# Altium footprint library Seeed-OPL-ic.PCBLIB: 95 footprints (part 2 of 6)
Each footprint in its own frame and in the unit in brackets; x right, y up, seen from the top. Pads: shape width x height; smd on the part's side, far side on the other; paste and mask are expansions set on the pad; w line width, h text height; cw(c..) or ccw(c..) is an arc to the next point about the centre after c.
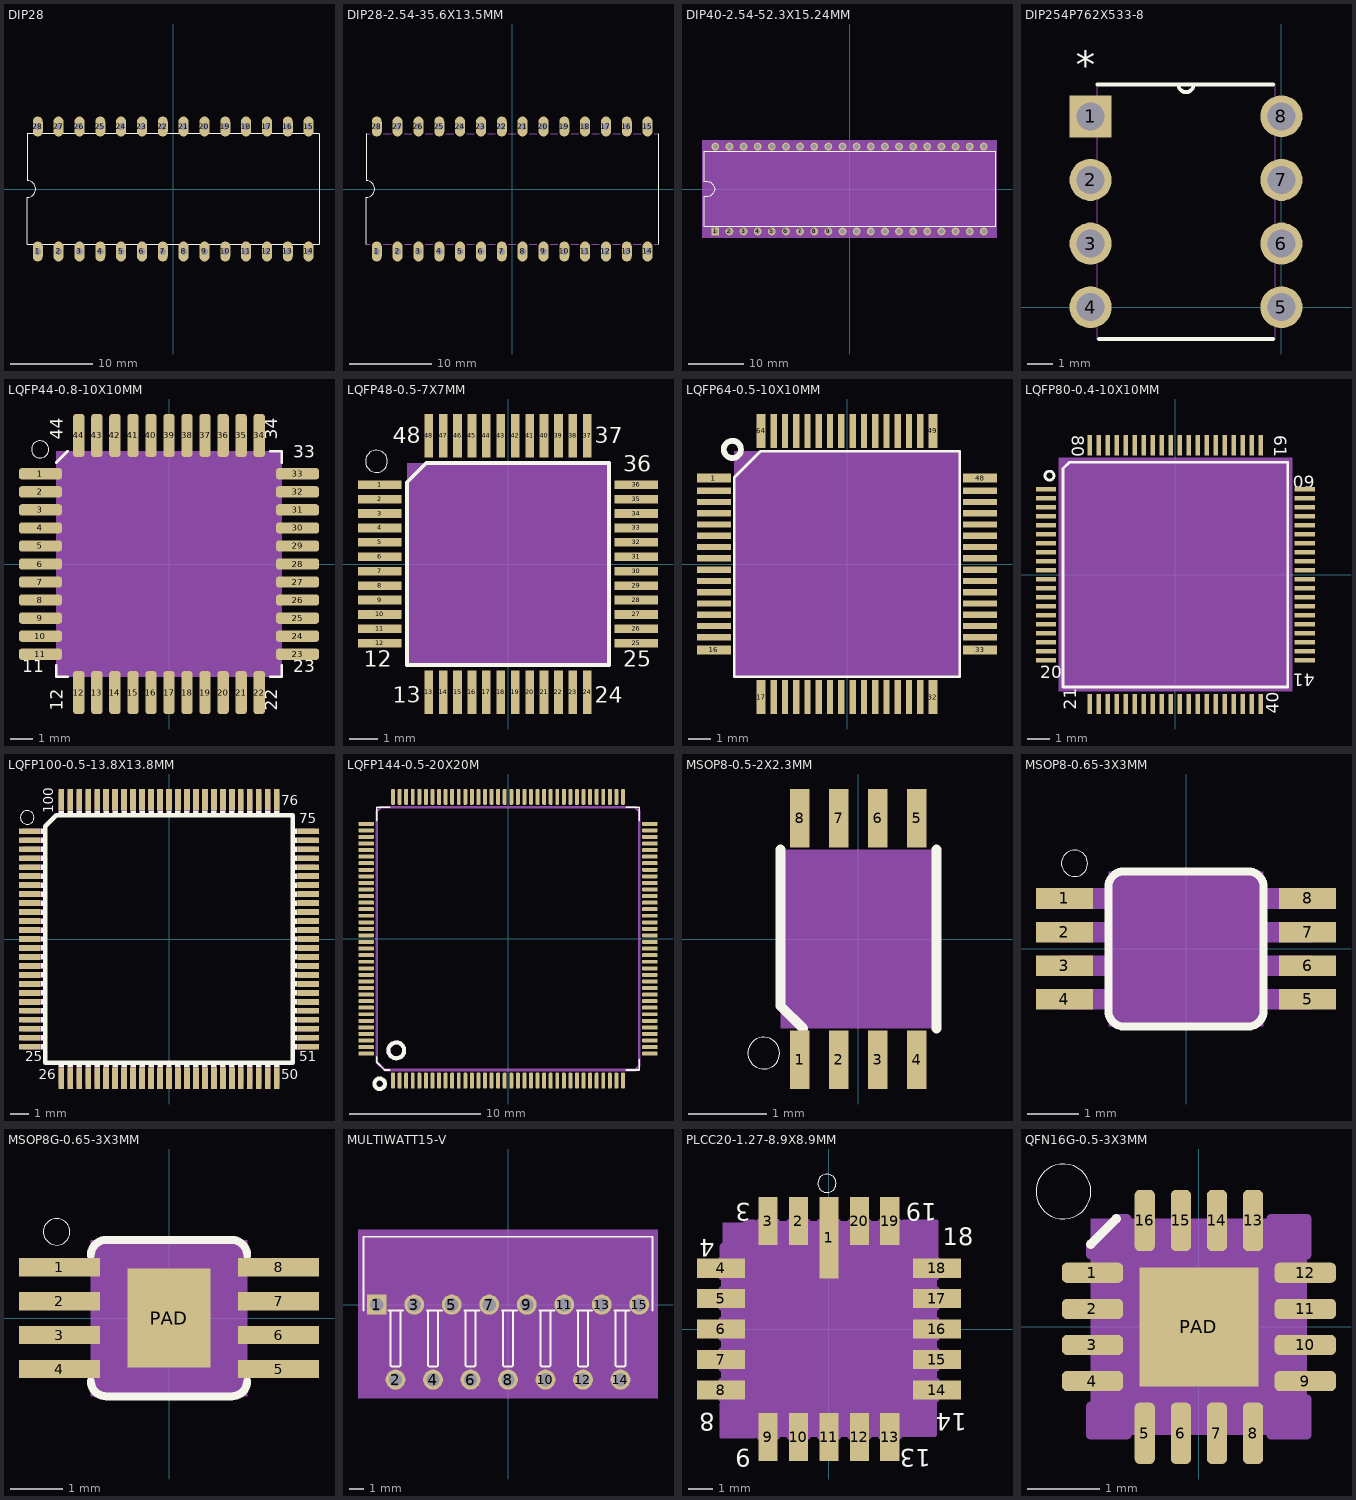
[diagram p1: the footprints below, top view; thin cyan lines are the x and y axes]

## DIP28 [mil]
pads (28):
  oval 48x96 hole 32: 1(-650,-300) 2(-550,-300) 3(-450,-300) 4(-350,-300) 5(-250,-300) 6(-150,-300) 7(-50,-300) 8(50,-300) 9(150,-300) 10(250,-300) 11(350,-300) 12(450,-300) 13(550,-300) 14(650,-300) 15(650,300) 16(550,300) 17(450,300) 18(350,300) 19(250,300) 20(150,300) 21(50,300) 22(-50,300) 23(-150,300) 24(-250,300) 25(-350,300) 26(-450,300) 27(-550,300) 28(-650,300)
Top Overlay:
  lines w6: -700,-265 700,-265 700,265 -700,265 -700,40 cw(c-700,0) -700,-40 -700,-265

## DIP28-2.54-35.6X13.5MM [mil]
pads (28):
  oval 48x96 hole 32: 1(-650,-300) 2(-550,-300) 3(-450,-300) 4(-350,-300) 5(-250,-300) 6(-150,-300) 7(-50,-300) 8(50,-300) 9(150,-300) 10(250,-300) 11(350,-300) 12(450,-300) 13(550,-300) 14(650,-300) 15(650,300) 16(550,300) 17(450,300) 18(350,300) 19(250,300) 20(150,300) 21(50,300) 22(-50,300) 23(-150,300) 24(-250,300) 25(-350,300) 26(-450,300) 27(-550,300) 28(-650,300)
Top Overlay:
  lines w6: -700,-265 -700,-40 ccw(c-700,0) -700,40 -700,265 ; 700,-265 700,265
Mechanical 16:
  lines w5: -700,-265 -681.1,-265 ; -700,265 -681.1,265 ; -618.11,-265 -581.1,-265 ; -618.11,265 -581.1,265 ; -518.11,-265 -481.1,-265 ; -518.11,265 -481.1,265 ; -418.11,-265 -381.1,-265 ; -418.11,265 -381.1,265 ; -318.11,-265 -281.1,-265 ; -318.11,265 -281.1,265 ; -218.11,-265 -181.1,-265 ; -218.11,265 -181.1,265 ; -118.11,-265 -81.1,-265 ; -118.11,265 -81.1,265 ; -18.11,-265 18.9,-265 ; -18.11,265 18.9,265 ; 81.89,-265 118.9,-265 ; 81.89,265 118.9,265 ; 181.89,-265 218.9,-265 ; 181.89,265 218.9,265 ; 281.89,-265 318.9,-265 ; 281.89,265 318.9,265 ; 381.89,-265 418.9,-265 ; 381.89,265 418.9,265 ; 481.89,-265 518.9,-265 ; 481.89,265 518.9,265 ; 581.89,-265 618.9,-265 ; 581.89,265 618.9,265 ; 681.1,-265 700,-265 ; 681.1,265 700,265

## DIP40-2.54-52.3X15.24MM [mm]
pads (40):
  rect 1.4x1.4 hole 0.9: 1(-24.13,-7.62)
  round 1.4 hole 0.9: 2(-21.59,-7.62) 3(-19.05,-7.62) 4(-16.51,-7.62) 5(-13.97,-7.62) 6(-11.43,-7.62) 7(-8.89,-7.62) 8(-6.35,-7.62) 9(-3.81,-7.62) 10(-1.27,-7.62) 11(1.27,-7.62) 12(3.81,-7.62) 13(6.35,-7.62) 14(8.89,-7.62) 15(11.43,-7.62) 16(13.97,-7.62) 17(16.51,-7.62) 18(19.05,-7.62) 19(21.59,-7.62) 20(24.13,-7.62) 21(24.13,7.62) 22(21.59,7.62) 23(19.05,7.62) 24(16.51,7.62) 25(13.97,7.62) 26(11.43,7.62) 27(8.89,7.62) 28(6.35,7.62) 29(3.81,7.62) 30(1.27,7.62) 31(-1.27,7.62) 32(-3.81,7.62) 33(-6.35,7.62) 34(-8.89,7.62) 35(-11.43,7.62) 36(-13.97,7.62) 37(-16.51,7.62) 38(-19.05,7.62) 39(-21.59,7.62) 40(-24.13,7.62)
Top Overlay:
  lines w0.127: -26.15,-6.75 26.15,-6.75 26.15,6.75 -26.15,6.75 -26.15,1.27 cw(c-25.75,-0.35) -24.13,0.05 -24.13,-0.05 cw(c-25.75,0.35) -26.15,-1.27 -26.15,-6.75
Mechanical 27:
  rectangle: -26.5,-8.81 26.5,8.81

## DIP254P762X533-8 [mil]
pads (8):
  rect 66x66 hole 44: 1(-300,300)
  round 66 hole 44: 2(-300,200) 3(-300,100) 4(-300,0) 5(0,0) 6(0,100) 7(0,200) 8(0,300)
Top Overlay:
  lines w6: -289.37,350 -162,350 ; -287,-50 -13,-50 ; -13,350 -138,350 ; -162,350 -138,350 ; -162,350 ccw(c-150,350) -138,350
  text "*" at -323,344 h77.5
Mechanical 16:
  lines w0: -162,350 -138,350 ; -162,350 -290,350 -290,-50 -10,-50 -10,350 -138,350 ; -162,350 ccw(c-150,350) -138,350 ; -322,-22 -322,22 -290,22 -290,-22 -322,-22 ; -322,78 -322,122 -290,122 -290,78 -322,78 ; -322,178 -322,222 -290,222 -290,178 -322,178 ; -322,278 -322,322 -290,322 -290,278 -322,278 ; -10,-22 -10,22 22,22 22,-22 -10,-22 ; -10,78 -10,122 22,122 22,78 -10,78 ; -10,178 -10,222 22,222 22,178 -10,178 ; -10,278 -10,322 22,322 22,278 -10,278
  text "*" at -323,344 h77.5

## LQFP44-0.8-10X10MM [mm]
pads (44):
  rrect50% 1.9x0.5 smd: 1(-5.7,4) 2(-5.7,3.2) 3(-5.7,2.4) 4(-5.7,1.6) 5(-5.7,0.8) 6(-5.7,0) 7(-5.7,-0.8) 8(-5.7,-1.6) 9(-5.7,-2.4) 10(-5.7,-3.2) 11(-5.7,-4) 23(5.7,-4) 24(5.7,-3.2) 25(5.7,-2.4) 26(5.7,-1.6) 27(5.7,-0.8) 28(5.7,0) 29(5.7,0.8) 30(5.7,1.6) 31(5.7,2.4) 32(5.7,3.2) 33(5.7,4)
  rrect50% 0.5x1.9 smd: 12(-4,-5.7) 13(-3.2,-5.7) 14(-2.4,-5.7) 15(-1.6,-5.7) 16(-0.8,-5.7) 17(0,-5.7) 18(0.8,-5.7) 19(1.6,-5.7) 20(2.4,-5.7) 21(3.2,-5.7) 22(4,-5.7) 34(4,5.7) 35(3.2,5.7) 36(2.4,5.7) 37(1.6,5.7) 38(0.8,5.7) 39(0,5.7) 40(-0.8,5.7) 41(-1.6,5.7) 42(-2.4,5.7) 43(-3.2,5.7) 44(-4,5.7)
Top Overlay:
  circle w0: c-5.715,5.08 r0.381
  lines w0.127: -5,-4.5 -5,-5 -4.5,-5 ; -5,4.5 -4.5,5 ; 4.5,-5 5,-5 5,-4.5 ; 4.5,5 5,5 5,4.5
  text "11" at -6.5,-5 h0.94
  text "12" at -4.5,-6.5 h0.94
  text "22" at 5,-6.5 h0.94
  text "23" at 5.5,-5 h0.94
  text "33" at 5.5,4.5 h0.94
  text "34" at 5,5.5 h0.94
  text "44" at -4.5,5.5 h0.94
Mechanical 27:
  rectangle: -5,-5 5,5

## LQFP48-0.5-7X7MM [mm]
pads (48):
  rect 1.5x0.3 smd: 1(-4.45,2.75) 2(-4.45,2.25) 3(-4.45,1.75) 4(-4.45,1.25) 5(-4.45,0.75) 6(-4.45,0.25) 7(-4.45,-0.25) 8(-4.45,-0.75) 9(-4.45,-1.25) 10(-4.45,-1.75) 11(-4.45,-2.25) 12(-4.45,-2.75) 25(4.45,-2.75) 26(4.45,-2.25) 27(4.45,-1.75) 28(4.45,-1.25) 29(4.45,-0.75) 30(4.45,-0.25) 31(4.45,0.25) 32(4.45,0.75) 33(4.45,1.25) 34(4.45,1.75) 35(4.45,2.25) 36(4.45,2.75)
  rect 0.3x1.5 smd: 13(-2.75,-4.45) 14(-2.25,-4.45) 15(-1.75,-4.45) 16(-1.25,-4.45) 17(-0.75,-4.45) 18(-0.25,-4.45) 19(0.25,-4.45) 20(0.75,-4.45) 21(1.25,-4.45) 22(1.75,-4.45) 23(2.25,-4.45) 24(2.75,-4.45) 37(2.75,4.45) 38(2.25,4.45) 39(1.75,4.45) 40(1.25,4.45) 41(0.75,4.45) 42(0.25,4.45) 43(-0.25,4.45) 44(-0.75,4.45) 45(-1.25,4.45) 46(-1.75,4.45) 47(-2.25,4.45) 48(-2.75,4.45)
Top Overlay:
  circle w0: c-4.56,3.56 r0.381
  lines w0.127: -3.5,-3.5 -3.5,2.836 -2.836,3.5 3.5,3.5 3.5,-3.5 -3.5,-3.5
  text "12" at -5,-3.75 h0.94
  text "13" at -4,-5 h0.94
  text "24" at 3,-5 h0.94
  text "25" at 4,-3.75 h0.94
  text "36" at 4,3 h0.94
  text "37" at 3,4 h0.94
  text "48" at -4,4 h0.94
Mechanical 27:
  rectangle: -3.5,-3.5 3.5,3.5

## LQFP64-0.5-10X10MM [mm]
pads (64):
  rect 1.5x0.4 smd: 1(-5.9,3.81) 16(-5.9,-3.81) 33(5.9,-3.81) 48(5.9,3.81)
  rect 1.5x0.28 smd: 2(-5.9,3.25) 3(-5.9,2.75) 4(-5.9,2.25) 5(-5.9,1.75) 6(-5.9,1.25) 7(-5.9,0.75) 8(-5.9,0.25) 9(-5.9,-0.25) 10(-5.9,-0.75) 11(-5.9,-1.25) 12(-5.9,-1.75) 13(-5.9,-2.25) 14(-5.9,-2.75) 15(-5.9,-3.25) 34(5.9,-3.25) 35(5.9,-2.75) 36(5.9,-2.25) 37(5.9,-1.75) 38(5.9,-1.25) 39(5.9,-0.75) 40(5.9,-0.25) 41(5.9,0.25) 42(5.9,0.75) 43(5.9,1.25) 44(5.9,1.75) 45(5.9,2.25) 46(5.9,2.75) 47(5.9,3.25)
  rect 0.4x1.5 smd: 17(-3.81,-5.9) 32(3.81,-5.9) 49(3.81,5.9) 64(-3.81,5.9)
  rect 0.28x1.5 smd: 18(-3.25,-5.9) 19(-2.75,-5.9) 20(-2.25,-5.9) 21(-1.75,-5.9) 22(-1.25,-5.9) 23(-0.75,-5.9) 24(-0.25,-5.9) 25(0.25,-5.9) 26(0.75,-5.9) 27(1.25,-5.9) 28(1.75,-5.9) 29(2.25,-5.9) 30(2.75,-5.9) 31(3.25,-5.9) 50(3.25,5.9) 51(2.75,5.9) 52(2.25,5.9) 53(1.75,5.9) 54(1.25,5.9) 55(0.75,5.9) 56(0.25,5.9) 57(-0.25,5.9) 58(-0.75,5.9) 59(-1.25,5.9) 60(-1.75,5.9) 61(-2.25,5.9) 62(-2.75,5.9) 63(-3.25,5.9)
Top Overlay:
  circle w0.254: c-5.08,5.08 r0.381
  lines w0.127: -5,-5 -5,3.842 -3.842,5 5,5 5,-5 -5,-5
Mechanical 27:
  rectangle: -5,-5 5,5

## LQFP80-0.4-10X10MM [mm]
pads (80):
  rect 0.9x0.2 smd: 1(-5.75,3.8) 2(-5.75,3.4) 3(-5.75,3) 4(-5.75,2.6) 5(-5.75,2.2) 6(-5.75,1.8) 7(-5.75,1.4) 8(-5.75,1) 9(-5.75,0.6) 10(-5.75,0.2) 11(-5.75,-0.2) 12(-5.75,-0.6) 13(-5.75,-1) 14(-5.75,-1.4) 15(-5.75,-1.8) 16(-5.75,-2.2) 17(-5.75,-2.6) 18(-5.75,-3) 19(-5.75,-3.4) 20(-5.75,-3.8) 41(5.75,-3.8) 42(5.75,-3.4) 43(5.75,-3) 44(5.75,-2.6) 45(5.75,-2.2) 46(5.75,-1.8) 47(5.75,-1.4) 48(5.75,-1) 49(5.75,-0.6) 50(5.75,-0.2) 51(5.75,0.2) 52(5.75,0.6) 53(5.75,1) 54(5.75,1.4) 55(5.75,1.8) 56(5.75,2.2) 57(5.75,2.6) 58(5.75,3) 59(5.75,3.4) 60(5.75,3.8)
  rect 0.2x0.9 smd: 21(-3.8,-5.75) 22(-3.4,-5.75) 23(-3,-5.75) 24(-2.6,-5.75) 25(-2.2,-5.75) 26(-1.8,-5.75) 27(-1.4,-5.75) 28(-1,-5.75) 29(-0.6,-5.75) 30(-0.2,-5.75) 31(0.2,-5.75) 32(0.6,-5.75) 33(1,-5.75) 34(1.4,-5.75) 35(1.8,-5.75) 36(2.2,-5.75) 37(2.6,-5.75) 38(3,-5.75) 39(3.4,-5.75) 40(3.8,-5.75) 61(3.8,5.75) 62(3.4,5.75) 63(3,5.75) 64(2.6,5.75) 65(2.2,5.75) 66(1.8,5.75) 67(1.4,5.75) 68(1,5.75) 69(0.6,5.75) 70(0.2,5.75) 71(-0.2,5.75) 72(-0.6,5.75) 73(-1,5.75) 74(-1.4,5.75) 75(-1.8,5.75) 76(-2.2,5.75) 77(-2.6,5.75) 78(-3,5.75) 79(-3.4,5.75) 80(-3.8,5.75)
Top Overlay:
  circle w0.127: c-5.6,4.4 r0.2
  lines w0.127: -5,-5 -5,4.717 -4.717,5 5,5 5,-5 -5,-5
  text "20" at -6,-4.8 h0.94
  text "21" at -4.2,-6 h0.94
  text "40" at 4.8,-6.2 h0.94
  text "41" at 6.2,-4.2 h0.94
  text "60" at 6.2,4.6 h0.94
  text "61" at 4.2,6.2 h0.94
  text "80" at -4.8,6.2 h0.94
Mechanical 27:
  rectangle: -5.2,-5.2 5.2,5.2

## LQFP100-0.5-13.8X13.8MM [mm]
pads (100):
  rect 1.2x0.32 smd: 1(-7.75,6) 2(-7.75,5.5) 3(-7.75,5) 4(-7.75,4.5) 5(-7.75,4) 6(-7.75,3.5) 7(-7.75,3) 8(-7.75,2.5) 9(-7.75,2) 10(-7.75,1.5) 11(-7.75,1) 12(-7.75,0.5) 13(-7.75,0) 14(-7.75,-0.5) 15(-7.75,-1) 16(-7.75,-1.5) 17(-7.75,-2) 18(-7.75,-2.5) 19(-7.75,-3) 20(-7.75,-3.5) 21(-7.75,-4) 22(-7.75,-4.5) 23(-7.75,-5) 24(-7.75,-5.5) 25(-7.75,-6) 51(7.75,-6) 52(7.75,-5.5) 53(7.75,-5) 54(7.75,-4.5) 55(7.75,-4) 56(7.75,-3.5) 57(7.75,-3) 58(7.75,-2.5) 59(7.75,-2) 60(7.75,-1.5) 61(7.75,-1) 62(7.75,-0.5) 63(7.75,0) 64(7.75,0.5) 65(7.75,1) 66(7.75,1.5) 67(7.75,2) 68(7.75,2.5) 69(7.75,3) 70(7.75,3.5) 71(7.75,4) 72(7.75,4.5) 73(7.75,5) 74(7.75,5.5) 75(7.75,6)
  rect 0.32x1.2 smd: 26(-6,-7.75) 27(-5.5,-7.75) 28(-5,-7.75) 29(-4.5,-7.75) 30(-4,-7.75) 31(-3.5,-7.75) 32(-3,-7.75) 33(-2.5,-7.75) 34(-2,-7.75) 35(-1.5,-7.75) 36(-1,-7.75) 37(-0.5,-7.75) 38(0,-7.75) 39(0.5,-7.75) 40(1,-7.75) 41(1.5,-7.75) 42(2,-7.75) 43(2.5,-7.75) 44(3,-7.75) 45(3.5,-7.75) 46(4,-7.75) 47(4.5,-7.75) 48(5,-7.75) 49(5.5,-7.75) 50(6,-7.75) 76(6,7.75) 77(5.5,7.75) 78(5,7.75) 79(4.5,7.75) 80(4,7.75) 81(3.5,7.75) 82(3,7.75) 83(2.5,7.75) 84(2,7.75) 85(1.5,7.75) 86(1,7.75) 87(0.5,7.75) 88(0,7.75) 89(-0.5,7.75) 90(-1,7.75) 91(-1.5,7.75) 92(-2,7.75) 93(-2.5,7.75) 94(-3,7.75) 95(-3.5,7.75) 96(-4,7.75) 97(-4.5,7.75) 98(-5,7.75) 99(-5.5,7.75) 100(-6,7.75)
Top Overlay:
  circle w0: c-7.893,6.77 r0.381
  rectangle: -7.115,5.848 -6.861,6.152
  rectangle: -7.115,5.348 -6.861,5.653
  rectangle: -7.115,4.848 -6.861,5.152
  rectangle: -7.115,4.348 -6.861,4.653
  rectangle: -7.115,3.848 -6.861,4.152
  rectangle: -7.115,3.348 -6.861,3.653
  rectangle: -7.115,2.848 -6.861,3.152
  rectangle: -7.115,2.348 -6.861,2.653
  rectangle: -7.115,1.848 -6.861,2.152
  rectangle: -7.115,1.348 -6.861,1.653
  rectangle: -7.115,0.848 -6.861,1.152
  rectangle: -7.115,0.348 -6.861,0.653
  rectangle: -7.115,-0.152 -6.861,0.152
  rectangle: -7.115,-0.653 -6.861,-0.348
  rectangle: -7.115,-1.152 -6.861,-0.848
  rectangle: -7.115,-1.653 -6.861,-1.348
  rectangle: -7.115,-2.152 -6.861,-1.848
  rectangle: -7.115,-2.653 -6.861,-2.348
  rectangle: -7.115,-3.152 -6.861,-2.848
  rectangle: -7.115,-3.653 -6.861,-3.348
  rectangle: -7.115,-4.152 -6.861,-3.848
  rectangle: -7.115,-4.653 -6.861,-4.348
  rectangle: -7.115,-5.152 -6.861,-4.848
  rectangle: -7.115,-5.653 -6.861,-5.348
  rectangle: -7.115,-6.152 -6.861,-5.848
  rectangle: -6.152,-7.115 -5.848,-6.861
  rectangle: -5.653,-7.115 -5.348,-6.861
  rectangle: -5.152,-7.115 -4.848,-6.861
  rectangle: -4.653,-7.115 -4.348,-6.861
  rectangle: -4.152,-7.115 -3.848,-6.861
  rectangle: -3.653,-7.115 -3.348,-6.861
  rectangle: -3.152,-7.115 -2.848,-6.861
  rectangle: -2.653,-7.115 -2.348,-6.861
  rectangle: -2.152,-7.115 -1.848,-6.861
  rectangle: -1.653,-7.115 -1.348,-6.861
  rectangle: -1.152,-7.115 -0.848,-6.861
  rectangle: -0.653,-7.115 -0.348,-6.861
  rectangle: -0.152,-7.115 0.152,-6.861
  rectangle: 0.348,-7.115 0.653,-6.861
  rectangle: 0.848,-7.115 1.152,-6.861
  rectangle: 1.348,-7.115 1.653,-6.861
  rectangle: 1.848,-7.115 2.152,-6.861
  rectangle: 2.348,-7.115 2.653,-6.861
  rectangle: 2.848,-7.115 3.152,-6.861
  rectangle: 3.348,-7.115 3.653,-6.861
  rectangle: 3.848,-7.115 4.152,-6.861
  rectangle: 4.348,-7.115 4.653,-6.861
  rectangle: 4.848,-7.115 5.152,-6.861
  rectangle: 5.348,-7.115 5.653,-6.861
  rectangle: 5.848,-7.115 6.152,-6.861
  rectangle: 6.861,-6.152 7.115,-5.848
  rectangle: 6.861,-5.653 7.115,-5.348
  rectangle: 6.861,-5.152 7.115,-4.848
  rectangle: 6.861,-4.653 7.115,-4.348
  rectangle: 6.861,-4.152 7.115,-3.848
  rectangle: 6.861,-3.653 7.115,-3.348
  rectangle: 6.861,-3.152 7.115,-2.848
  rectangle: 6.861,-2.653 7.115,-2.348
  rectangle: 6.861,-2.152 7.115,-1.848
  rectangle: 6.861,-1.653 7.115,-1.348
  rectangle: 6.861,-1.152 7.115,-0.848
  rectangle: 6.861,-0.653 7.115,-0.348
  rectangle: 6.861,-0.152 7.115,0.152
  rectangle: 6.861,0.348 7.115,0.653
  rectangle: 6.861,0.848 7.115,1.152
  rectangle: 6.861,1.348 7.115,1.653
  rectangle: 6.861,1.848 7.115,2.152
  rectangle: 6.861,2.348 7.115,2.653
  rectangle: 6.861,2.848 7.115,3.152
  rectangle: 6.861,3.348 7.115,3.653
  rectangle: 6.861,3.848 7.115,4.152
  rectangle: 6.861,4.348 7.115,4.653
  rectangle: 6.861,4.848 7.115,5.152
  rectangle: 6.861,5.348 7.115,5.653
  rectangle: 6.861,5.848 7.115,6.152
  rectangle: 5.848,6.861 6.152,7.115
  rectangle: 5.348,6.861 5.653,7.115
  rectangle: 4.848,6.861 5.152,7.115
  rectangle: 4.348,6.861 4.653,7.115
  rectangle: 3.848,6.861 4.152,7.115
  rectangle: 3.348,6.861 3.653,7.115
  rectangle: 2.848,6.861 3.152,7.115
  rectangle: 2.348,6.861 2.653,7.115
  rectangle: 1.848,6.861 2.152,7.115
  rectangle: 1.348,6.861 1.653,7.115
  rectangle: 0.848,6.861 1.152,7.115
  rectangle: 0.348,6.861 0.653,7.115
  rectangle: -0.152,6.861 0.152,7.115
  rectangle: -0.653,6.861 -0.348,7.115
  rectangle: -1.152,6.861 -0.848,7.115
  rectangle: -1.653,6.861 -1.348,7.115
  rectangle: -2.152,6.861 -1.848,7.115
  rectangle: -2.653,6.861 -2.348,7.115
  rectangle: -3.152,6.861 -2.848,7.115
  rectangle: -3.653,6.861 -3.348,7.115
  rectangle: -4.152,6.861 -3.848,7.115
  rectangle: -4.653,6.861 -4.348,7.115
  rectangle: -5.152,6.861 -4.848,7.115
  rectangle: -5.653,6.861 -5.348,7.115
  rectangle: -6.152,6.861 -5.848,7.115
  lines w0.254: -6.883,-6.883 6.883,-6.883 6.883,6.883 -6.274,6.883 -6.883,6.274 -6.883,-6.883
  text "25" at -8,-7 h0.94
  text "26" at -7.25,-8 h0.94
  text "50" at 6.25,-8 h0.94
  text "51" at 7.25,-7 h0.94
  text "75" at 7.25,6.25 h0.94
  text "76" at 6.25,7.25 h0.94
  text "100" at -6.25,7 h0.94
Mechanical 16:
  rectangle: -8.131,5.848 -7.09,6.152
  rectangle: -8.131,5.348 -7.09,5.653
  rectangle: -8.131,4.848 -7.09,5.152
  rectangle: -8.131,4.348 -7.09,4.653
  rectangle: -8.131,3.848 -7.09,4.152
  rectangle: -8.131,3.348 -7.09,3.653
  rectangle: -8.131,2.848 -7.09,3.152
  rectangle: -8.131,2.348 -7.09,2.653
  rectangle: -8.131,1.848 -7.09,2.152
  rectangle: -8.131,1.348 -7.09,1.653
  rectangle: -8.131,0.848 -7.09,1.152
  rectangle: -8.131,0.348 -7.09,0.653
  rectangle: -8.131,-0.152 -7.09,0.152
  rectangle: -8.131,-0.653 -7.09,-0.348
  rectangle: -8.131,-1.152 -7.09,-0.848
  rectangle: -8.131,-1.653 -7.09,-1.348
  rectangle: -8.131,-2.152 -7.09,-1.848
  rectangle: -8.131,-2.653 -7.09,-2.348
  rectangle: -8.131,-3.152 -7.09,-2.848
  rectangle: -8.131,-3.653 -7.09,-3.348
  rectangle: -8.131,-4.152 -7.09,-3.848
  rectangle: -8.131,-4.653 -7.09,-4.348
  rectangle: -8.131,-5.152 -7.09,-4.848
  rectangle: -8.131,-5.653 -7.09,-5.348
  rectangle: -8.131,-6.152 -7.09,-5.848
  rectangle: -6.152,-8.131 -5.848,-7.09
  rectangle: -5.653,-8.131 -5.348,-7.09
  rectangle: -5.152,-8.131 -4.848,-7.09
  rectangle: -4.653,-8.131 -4.348,-7.09
  rectangle: -4.152,-8.131 -3.848,-7.09
  rectangle: -3.653,-8.131 -3.348,-7.09
  rectangle: -3.152,-8.131 -2.848,-7.09
  rectangle: -2.653,-8.131 -2.348,-7.09
  rectangle: -2.152,-8.131 -1.848,-7.09
  rectangle: -1.653,-8.131 -1.348,-7.09
  rectangle: -1.152,-8.131 -0.848,-7.09
  rectangle: -0.653,-8.131 -0.348,-7.09
  rectangle: -0.152,-8.131 0.152,-7.09
  rectangle: 0.348,-8.131 0.653,-7.09
  rectangle: 0.848,-8.131 1.152,-7.09
  rectangle: 1.348,-8.131 1.653,-7.09
  rectangle: 1.848,-8.131 2.152,-7.09
  rectangle: 2.348,-8.131 2.653,-7.09
  rectangle: 2.848,-8.131 3.152,-7.09
  rectangle: 3.348,-8.131 3.653,-7.09
  rectangle: 3.848,-8.131 4.152,-7.09
  rectangle: 4.348,-8.131 4.653,-7.09
  rectangle: 4.848,-8.131 5.152,-7.09
  rectangle: 5.348,-8.131 5.653,-7.09
  rectangle: 5.848,-8.131 6.152,-7.09
  rectangle: 7.09,-6.152 8.131,-5.848
  rectangle: 7.09,-5.653 8.131,-5.348
  rectangle: 7.09,-5.152 8.131,-4.848
  rectangle: 7.09,-4.653 8.131,-4.348
  rectangle: 7.09,-4.152 8.131,-3.848
  rectangle: 7.09,-3.653 8.131,-3.348
  rectangle: 7.09,-3.152 8.131,-2.848
  rectangle: 7.09,-2.653 8.131,-2.348
  rectangle: 7.09,-2.152 8.131,-1.848
  rectangle: 7.09,-1.653 8.131,-1.348
  rectangle: 7.09,-1.152 8.131,-0.848
  rectangle: 7.09,-0.653 8.131,-0.348
  rectangle: 7.09,-0.152 8.131,0.152
  rectangle: 7.09,0.348 8.131,0.653
  rectangle: 7.09,0.848 8.131,1.152
  rectangle: 7.09,1.348 8.131,1.653
  rectangle: 7.09,1.848 8.131,2.152
  rectangle: 7.09,2.348 8.131,2.653
  rectangle: 7.09,2.848 8.131,3.152
  rectangle: 7.09,3.348 8.131,3.653
  rectangle: 7.09,3.848 8.131,4.152
  rectangle: 7.09,4.348 8.131,4.653
  rectangle: 7.09,4.848 8.131,5.152
  rectangle: 7.09,5.348 8.131,5.653
  rectangle: 7.09,5.848 8.131,6.152
  rectangle: 5.848,7.09 6.152,8.131
  rectangle: 5.348,7.09 5.653,8.131
  rectangle: 4.848,7.09 5.152,8.131
  rectangle: 4.348,7.09 4.653,8.131
  rectangle: 3.848,7.09 4.152,8.131
  rectangle: 3.348,7.09 3.653,8.131
  rectangle: 2.848,7.09 3.152,8.131
  rectangle: 2.348,7.09 2.653,8.131
  rectangle: 1.848,7.09 2.152,8.131
  rectangle: 1.348,7.09 1.653,8.131
  rectangle: 0.848,7.09 1.152,8.131
  rectangle: 0.348,7.09 0.653,8.131
  rectangle: -0.152,7.09 0.152,8.131
  rectangle: -0.653,7.09 -0.348,8.131
  rectangle: -1.152,7.09 -0.848,8.131
  rectangle: -1.653,7.09 -1.348,8.131
  rectangle: -2.152,7.09 -1.848,8.131
  rectangle: -2.653,7.09 -2.348,8.131
  rectangle: -3.152,7.09 -2.848,8.131
  rectangle: -3.653,7.09 -3.348,8.131
  rectangle: -4.152,7.09 -3.848,8.131
  rectangle: -4.653,7.09 -4.348,8.131
  rectangle: -5.152,7.09 -4.848,8.131
  rectangle: -5.653,7.09 -5.348,8.131
  rectangle: -6.152,7.09 -5.848,8.131

## LQFP144-0.5-20X20M [mm]
pads (144):
  rrect50% 0.3x1.2 smd: 1(-8.75,-10.8) 2(-8.25,-10.8) 3(-7.75,-10.8) 4(-7.25,-10.8) 5(-6.75,-10.8) 6(-6.25,-10.8) 7(-5.75,-10.8) 8(-5.25,-10.8) 9(-4.75,-10.8) 10(-4.25,-10.8) 11(-3.75,-10.8) 12(-3.25,-10.8) 13(-2.75,-10.8) 14(-2.25,-10.8) 15(-1.75,-10.8) 16(-1.25,-10.8) 17(-0.75,-10.8) 18(-0.25,-10.8) 19(0.25,-10.8) 20(0.75,-10.8) 21(1.25,-10.8) 22(1.75,-10.8) 23(2.25,-10.8) 24(2.75,-10.8) 25(3.25,-10.8) 26(3.75,-10.8) 27(4.25,-10.8) 28(4.75,-10.8) 29(5.25,-10.8) 30(5.75,-10.8) 31(6.25,-10.8) 32(6.75,-10.8) 33(7.25,-10.8) 34(7.75,-10.8) 35(8.25,-10.8) 36(8.75,-10.8) 73(8.75,10.8) 74(8.25,10.8) 75(7.75,10.8) 76(7.25,10.8) 77(6.75,10.8) 78(6.25,10.8) 79(5.75,10.8) 80(5.25,10.8) 81(4.75,10.8) 82(4.25,10.8) 83(3.75,10.8) 84(3.25,10.8) 85(2.75,10.8) 86(2.25,10.8) 87(1.75,10.8) 88(1.25,10.8) 89(0.75,10.8) 90(0.25,10.8) 91(-0.25,10.8) 92(-0.75,10.8) 93(-1.25,10.8) 94(-1.75,10.8) 95(-2.25,10.8) 96(-2.75,10.8) 97(-3.25,10.8) 98(-3.75,10.8) 99(-4.25,10.8) 100(-4.75,10.8) 101(-5.25,10.8) 102(-5.75,10.8) 103(-6.25,10.8) 104(-6.75,10.8) 105(-7.25,10.8) 106(-7.75,10.8) 107(-8.25,10.8) 108(-8.75,10.8)
  rrect50% 1.2x0.3 smd: 37(10.8,-8.75) 38(10.8,-8.25) 39(10.8,-7.75) 40(10.8,-7.25) 41(10.8,-6.75) 42(10.8,-6.25) 43(10.8,-5.75) 44(10.8,-5.25) 45(10.8,-4.75) 46(10.8,-4.25) 47(10.8,-3.75) 48(10.8,-3.25) 49(10.8,-2.75) 50(10.8,-2.25) 51(10.8,-1.75) 52(10.8,-1.25) 53(10.8,-0.75) 54(10.8,-0.25) 55(10.8,0.25) 56(10.8,0.75) 57(10.8,1.25) 58(10.8,1.75) 59(10.8,2.25) 60(10.8,2.75) 61(10.8,3.25) 62(10.8,3.75) 63(10.8,4.25) 64(10.8,4.75) 65(10.8,5.25) 66(10.8,5.75) 67(10.8,6.25) 68(10.8,6.75) 69(10.8,7.25) 70(10.8,7.75) 71(10.8,8.25) 72(10.8,8.75) 109(-10.8,8.75) 110(-10.8,8.25) 111(-10.8,7.75) 112(-10.8,7.25) 113(-10.8,6.75) 114(-10.8,6.25) 115(-10.8,5.75) 116(-10.8,5.25) 117(-10.8,4.75) 118(-10.8,4.25) 119(-10.8,3.75) 120(-10.8,3.25) 121(-10.8,2.75) 122(-10.8,2.25) 123(-10.8,1.75) 124(-10.8,1.25) 125(-10.8,0.75) 126(-10.8,0.25) 127(-10.8,-0.25) 128(-10.8,-0.75) 129(-10.8,-1.25) 130(-10.8,-1.75) 131(-10.8,-2.25) 132(-10.8,-2.75) 133(-10.8,-3.25) 134(-10.8,-3.75) 135(-10.8,-4.25) 136(-10.8,-4.75) 137(-10.8,-5.25) 138(-10.8,-5.75) 139(-10.8,-6.25) 140(-10.8,-6.75) 141(-10.8,-7.25) 142(-10.8,-7.75) 143(-10.8,-8.25) 144(-10.8,-8.75)
Top Overlay:
  circle w0.305: c-8.5,-8.5 r0.6
  circle w0.305: c-9.77,-11.04 r0.4
  lines w0.127: -10,-9 -10,-9.4 -9.4,-10 -9,-10 ; -10,9 -10,10 -9,10 ; 9,-10 10,-10 10,-9.2 ; 9,10 10,10 10,9
Mechanical 16:
  circle w0.305: c-8.5,-8.5 r0.6
  lines w0.203: -10,-9.365 -9.365,-10 9.682,-10 10,-9.682 10,9.682 9.682,10 -9.682,10 -10,9.682 -10,-9.365
  text "144" at -11.43,-9.525 h0.63
  text "36" at 9.525,-10.795 h0.63
  text "37" at 10.16,-9.525 h0.63
  text "72" at 10.4,9.1 h0.63
  text "73" at 9.5,10.3 h0.63
  text "108" at -9.1,10.3 h0.63
  text "109" at -11.2,9.1 h0.63

## MSOP8-0.5-2X2.3MM [mm]
pads (8):
  rect 0.25x0.75 smd: 1(-0.75,-1.55) 2(-0.25,-1.55) 3(0.25,-1.55) 4(0.75,-1.55) 5(0.75,1.55) 6(0.25,1.55) 7(-0.25,1.55) 8(-0.75,1.55)
Top Overlay:
  circle w0: c-1.215,-1.465 r0.203
  lines w0.127: -1,1.15 -1,-0.859 -0.708,-1.15 ; 1,-1.15 1,1.15
Mechanical 27:
  rectangle: -1,-1.15 1,1.15

## MSOP8-0.65-3X3MM [mm]
pads (8):
  rect 1.1x0.4 smd: 1(-2.35,0.975) 2(-2.35,0.325) 3(-2.35,-0.325) 4(-2.35,-0.975) 5(2.35,-0.975) 6(2.35,-0.325) 7(2.35,0.325) 8(2.35,0.975)
Top Overlay:
  circle w0: c-2.155,1.655 r0.254
  lines w0.152: -1.5,-1.2 -1.5,1.2 cw(c-1.2,1.2) -1.2,1.5 1.2,1.5 cw(c1.2,1.2) 1.5,1.2 1.5,-1.2 cw(c1.2,-1.2) 1.2,-1.5 -1.2,-1.5 cw(c-1.2,-1.2) -1.5,-1.2
Mechanical 16:
  region: 2.45,-1.175 2.45,-0.775 1.55,-0.775 1.55,-1.175
  region: 2.45,-0.525 2.45,-0.125 1.55,-0.125 1.55,-0.525
  region: 2.45,0.125 2.45,0.525 1.55,0.525 1.55,0.125
  region: 2.45,0.775 2.45,1.175 1.55,1.175 1.55,0.775
  region: -1.55,0.775 -1.55,1.175 -2.45,1.175 -2.45,0.775
  region: -1.55,0.125 -1.55,0.525 -2.45,0.525 -2.45,0.125
  region: -1.55,-0.525 -1.55,-0.125 -2.45,-0.125 -2.45,-0.525
  region: -1.55,-1.175 -1.55,-0.775 -2.45,-0.775 -2.45,-1.175
Mechanical 27:
  rectangle: -1.5,-1.5 1.5,1.5

## MSOP8G-0.65-3X3MM [mm]
pads (9):
  rect 1.55x0.35 smd: 1(-2.1,0.975) 2(-2.1,0.325) 3(-2.1,-0.325) 4(-2.1,-0.975) 5(2.1,-0.975) 6(2.1,-0.325) 7(2.1,0.325) 8(2.1,0.975)
  rect 1.6x1.9 smd: PAD(0,0)
Top Overlay:
  circle w0: c-2.155,1.655 r0.254
  lines w0.152: -1.5,-1.2 ccw(c-1.2,-1.2) -1.2,-1.5 1.2,-1.5 ccw(c1.2,-1.2) 1.5,-1.2 ; -1.5,1.2 cw(c-1.2,1.2) -1.2,1.5 1.2,1.5 cw(c1.2,1.2) 1.5,1.2
Mechanical 27:
  rectangle: -1.5,-1.5 1.5,1.5

## MULTIWATT15-V [mm]
pads (15):
  rect 1.35x1.35 hole 0.9: 1(-8.89,0)
  round 1.35 hole 0.9: 2(-7.62,-5.08) 3(-6.35,0) 4(-5.08,-5.08) 5(-3.81,0) 6(-2.54,-5.08) 7(-1.27,0) 8(0,-5.08) 9(1.27,0) 10(2.54,-5.08) 11(3.81,0) 12(5.08,-5.08) 13(6.35,0) 14(7.62,-5.08) 15(8.89,0)
Top Overlay:
  lines w0.127: -9.8,-0.4 -9.8,4.6 9.8,4.6 9.8,-0.4 ; -8.1,-0.4 -7.97,-0.4 ; -7.1,-0.4 -7.27,-0.4 ; -5.48,-0.4 -4.48,-0.4 ; -5.43,-0.4 -5.43,-4.1 -5.33,-4.2 -4.83,-4.2 -4.73,-4.1 -4.73,-0.4 ; -2.94,-0.4 -1.94,-0.4 ; -2.89,-0.4 -2.89,-4.1 -2.79,-4.2 -2.29,-4.2 -2.19,-4.1 -2.19,-0.4 ; -0.4,-0.4 -0.35,-0.4 ; 0.6,-0.4 0.35,-0.4 ; 2.14,-0.4 3.14,-0.4 ; 2.19,-0.4 2.19,-4.1 2.29,-4.2 2.79,-4.2 2.89,-4.1 2.89,-0.4 ; 4.68,-0.4 5.68,-0.4 ; 4.73,-0.4 4.73,-4.1 4.83,-4.2 5.33,-4.2 5.43,-4.1 5.43,-0.4 ; 7.22,-0.4 8.22,-0.4 ; 7.27,-0.4 7.27,-4.1 7.37,-4.2 7.87,-4.2 7.97,-4.1 7.97,-0.4 ; -7.97,-0.4 -7.27,-0.4 ; -7.97,-0.4 -7.97,-4.1 -7.87,-4.2 -7.37,-4.2 -7.27,-4.1 -7.27,-0.4 ; -0.35,-0.4 0.35,-0.4 ; -0.35,-0.4 -0.35,-4.1 -0.25,-4.2 0.25,-4.2 0.35,-4.1 0.35,-0.4
Mechanical 27:
  rectangle: -10.16,-6.35 10.16,5.08

## PLCC20-1.27-8.9X8.9MM [mil]
pads (20):
  rect 31.5x133.86 smd: 1(0,149.61)
  rect 31.5x78.74 smd: 2(-50,177.17) 3(-100,177.17) 9(-100,-177.17) 10(-50,-177.17) 11(0,-177.17) 12(50,-177.17) 13(100,-177.17) 19(100,177.17) 20(50,177.17)
  rect 78.74x31.5 smd: 4(-177.17,100) 5(-177.17,50) 6(-177.17,0) 7(-177.17,-50) 8(-177.17,-100) 14(177.17,-100) 15(177.17,-50) 16(177.17,0) 17(177.17,50) 18(177.17,100)
Top Overlay:
  circle w0: c-3.15,239.37 r15
  text "18" at 187.01,127.95 h49.6
  text "19" at 177.17,216.54 h49.6
  text "14" at 226.38,-127.95 h49.6
  text "13" at 167.32,-187.01 h49.6
  text "9" at -127.95,-187.01 h49.6
  text "8" at -187.01,-127.95 h49.6
  text "4" at -187.01,157.48 h49.6
  text "3" at -127.95,216.54 h49.6
Mechanical 16:
  lines w5: -177.17,-122.05 -177.17,-177.17 -122.05,-177.17 ; -177.17,122.05 -177.17,136.63 -136.63,177.17 -122.05,177.17 ; 122.05,177.17 177.17,177.17 177.17,122.05
  lines w8: -177.17,-115.75 ccw(c-177.17,-100) -177.17,-84.25 ; -177.17,-65.75 ccw(c-177.17,-50) -177.17,-34.25 ; -177.17,-15.75 ccw(c-177.17,0) -177.17,15.75 ; -177.17,34.25 ccw(c-177.17,50) -177.17,65.75 ; -177.17,84.25 ccw(c-177.17,100) -177.17,115.75 ; -173.23,-173.62 -173.23,-173.23 ; -173.23,-115.75 -173.23,-173.23 ; -173.23,-84.25 -173.23,-65.75 ; -173.23,-34.25 -173.23,-15.75 ; -173.23,15.75 -173.23,34.25 ; -173.23,65.75 -173.23,84.25 ; -173.23,115.75 -173.23,129.92 -129.92,173.23 -115.75,173.23 ; -115.75,-177.17 cw(c-100,-177.17) -84.25,-177.17 ; -115.75,-173.23 -173.23,-173.23 ; -115.75,177.17 ccw(c-100,177.17) -84.25,177.17 ; -84.25,-173.23 -65.75,-173.23 ; -84.25,173.23 -65.75,173.23 ; -65.75,-177.17 cw(c-50,-177.17) -34.25,-177.17 ; -65.75,177.17 ccw(c-50,177.17) -34.25,177.17 ; -34.25,-173.23 -15.75,-173.23 ; -34.25,173.23 -15.75,173.23 ; -15.75,-177.17 cw(c0,-177.17) 15.75,-177.17 ; -15.75,177.17 ccw(c0,177.17) 15.75,177.17 ; 15.75,-173.23 34.25,-173.23 ; 15.75,173.23 34.25,173.23 ; 34.25,-177.17 cw(c50,-177.17) 65.75,-177.17 ; 34.25,177.17 ccw(c50,177.17) 65.75,177.17 ; 65.75,-173.23 84.25,-173.23 ; 65.75,173.23 84.25,173.23 ; 84.25,-177.17 cw(c100,-177.17) 115.75,-177.17 ; 84.25,177.17 ccw(c100,177.17) 115.75,177.17 ; 115.75,-173.23 173.23,-173.23 173.23,-115.75 ; 115.75,173.23 173.23,173.23 173.23,115.75 ; 173.23,-84.25 173.23,-65.75 ; 173.23,-34.25 173.23,-15.75 ; 173.23,15.75 173.23,34.25 ; 173.23,65.75 173.23,84.25 ; 177.17,-115.75 cw(c177.17,-100) 177.17,-84.25 ; 177.17,-65.75 cw(c177.17,-50) 177.17,-34.25 ; 177.17,-15.75 cw(c177.17,0) 177.17,15.75 ; 177.17,34.25 cw(c177.17,50) 177.17,65.75 ; 177.17,84.25 cw(c177.17,100) 177.17,115.75
Mechanical 27:
  rectangle: -175,-175 175,175

## QFN16G-0.5-3X3MM [mm]
pads (17):
  rrect50% 0.85x0.28 smd: 1(-1.475,0.75) 2(-1.475,0.25) 3(-1.475,-0.25) 4(-1.475,-0.75) 9(1.475,-0.75) 10(1.475,-0.25) 11(1.475,0.25) 12(1.475,0.75)
  rrect50% 0.28x0.85 smd: 5(-0.75,-1.475) 6(-0.25,-1.475) 7(0.25,-1.475) 8(0.75,-1.475) 13(0.75,1.475) 14(0.25,1.475) 15(-0.25,1.475) 16(-0.75,1.475)
  rect 1.65x1.65 smd: PAD(0,0)
Top Overlay:
  circle w0: c-1.877,1.877 r0.381
  lines w0.127: -1.5,1.147 -1.147,1.5
Mechanical 16:
  lines w0.127: -1.5,-1.1 -1.5,-1.5 -1,-1.5 ; -1.5,1 -1.5,1.145 ; -1.145,1.5 -1,1.5 ; 1,-1.5 1.5,-1.5 1.5,-1 ; 1,1.5 1.5,1.5 1.5,1
Mechanical 27:
  region: -1.5,1.5 -1.5,-1.5 1.5,-1.5 1.5,1.5